# Altium schematic symbol library PMOD_RS485.SchLib: 43 symbols
Pins are listed as number, name and electrical type; pins without a type are passive.

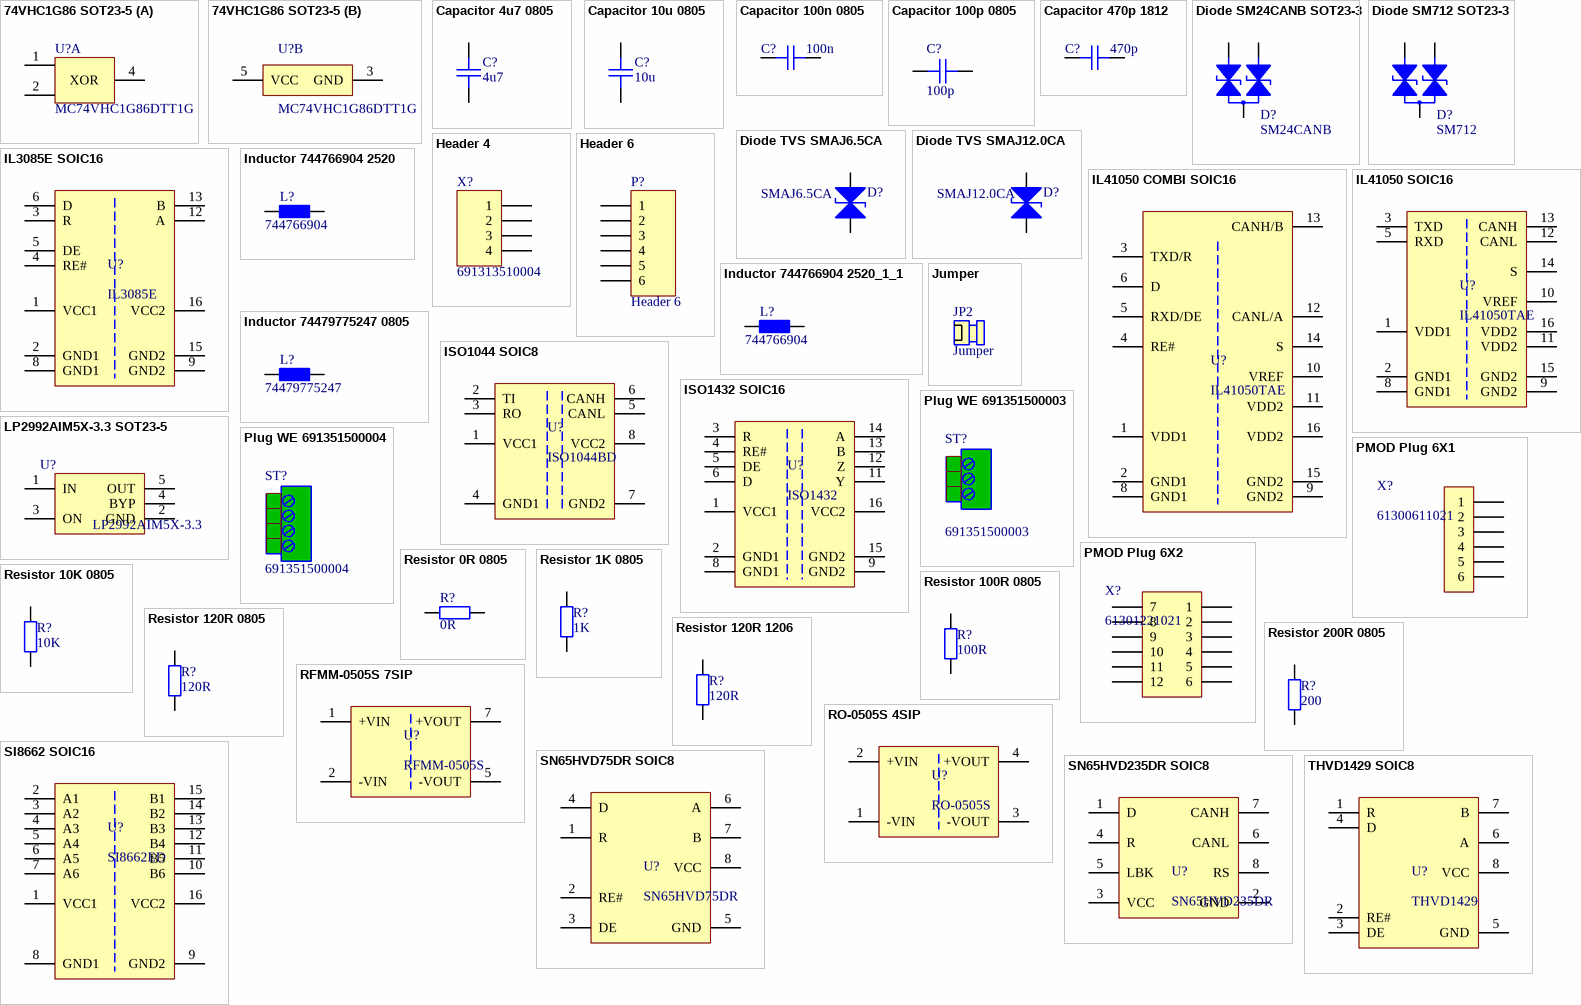
[diagram p0: symbols 74VHC1G86 SOT23-5 to THVD1429 SOIC8]

## 74VHC1G86 SOT23-5
designator U?, comment MC74VHC1G86DTT1G
IC GATE XOR 1CH 2-INP 5TSOP
footprint SOT23-5 (SOT23, 5-Leads, Body 2,90x2,80mm, Pitch 0,95mm, IPC Medium Density)
part A pins: 1 B, 2 A, 4 Y
part B pins: 3 GND (power), 5 VCC (power)
part A text: XOR

## Capacitor 4u7 0805
designator C?, comment 4u7
CAP CER 4.7UF 16V X5R 0805; Manufacturer PartNo: 885012107013; Manufacturer: Würth Elektronik; Supplier 1 (Info): Digi-Key; Supplier 1 PartNo (Info): 732-7623-1-ND
footprint 0402-C (Chip Capacitor, 2-Leads, Body 1,00x0,50mm, IPC Medium Density)
footprint 0603-C (Chip Capacitor, 2-Leads, Body 1,60x0,85mm, IPC Medium Density)
footprint 0805-C (Chip Capacitor, 2-Leads, Body 2,00x1,25mm, IPC Medium Density)
footprint 1206-C (Chip Capacitor, 2-Leads, Body 3,20x1,60mm, IPC Medium Density)
pins: 1, 2
2 alternate drawings of the same symbol

## Capacitor 10u 0805
designator C?, comment 10u
CAP CER 10UF 16V X5R 0805; Manufacturer PartNo: EMK212BBJ106KGHT; Manufacturer: Taiyo Yuden; Supplier 1 (Info): Digi-Key; Supplier 1 PartNo (Info): 587-3320-1-ND
footprint 0805-C (Chip Capacitor, 2-Leads, Body 2,00x1,25mm, IPC Medium Density)
pins: 1, 2
2 alternate drawings of the same symbol

## Capacitor 100n 0805
designator C?, comment 100n
CAP CER 0.1UF 50V X8R 0805; Manufacturer PartNo: GCM21BR91H104KA37L; Manufacturer: Murata Electronics; Supplier 1 (Info): Digi-Key; Supplier 1 PartNo (Info): 490-11165-1-ND
footprint 0805-C (Chip Capacitor, 2-Leads, Body 2,00x1,25mm, IPC Medium Density)
pins: 1, 2
2 alternate drawings of the same symbol

## Capacitor 100p 0805
designator C?, comment 100p
CAP CER 100PF 250V C0G/NP0 0805; Manufacturer PartNo: GRM21A5C2E101FW01D; Manufacturer: Murata Electronics; Supplier 1 (Info): Digi-Key; Supplier 1 PartNo (Info): 490-GRM21A5C2E101FW01DCT-ND
footprint 0805-C (Chip Capacitor, 2-Leads, Body 2,00x1,25mm, IPC Medium Density)
pins: 1, 2
2 alternate drawings of the same symbol

## Capacitor 470p 1812
designator C?, comment 470p
CAP CER 470PF 5KV X7R 1812; Manufacturer PartNo: HV1812Y471KXMATHV; Manufacturer: Vishay Vitramon; Supplier 1 (Info): Digi-Key; Supplier 1 PartNo (Info): 720-1555-1-ND
footprint 1812-C (Chip Capacitor, 2-Leads, Body 4,60x3,20mm, IPC Medium Density)
pins: 1, 2
2 alternate drawings of the same symbol

## Diode SM24CANB SOT23-3
designator D?, comment SM24CANB
TVS DIODE 24V 50V SOT23-3; Manufacturer PartNo: SM24CANB-02HTG; Manufacturer: Littelfuse Inc.; Supplier 1 (Info): Digi-Key; Supplier 1 PartNo (Info): F6707CT-ND
footprint SOT23-3 (SOT95P230X110-3N, JEDEC TO-236AB)
pins: 1, 2, 3

## Diode SM712 SOT23-3
designator D?, comment SM712
TVS DIODE 12V 21V SOT23; Manufacturer PartNo: SM712-TP; Manufacturer: Micro Commercial Co; Supplier 1 (Info): Digi-Key; Supplier 1 PartNo (Info): SM712-TPMSCT-ND
footprint SOT23-3 (SOT95P230X110-3N, JEDEC TO-236AB)
pins: 1, 2, 3

## Diode TVS SMAJ6.5CA
designator D?, comment SMAJ6.5CA
TVS DIODE 6.5V 11.2V DO214AC; Manufacturer PartNo: SMAJ6.5CA-TP; Manufacturer: Micro Commercial Co; Supplier 1 (Info): Digi-Key; Supplier 1 PartNo (Info): SMAJ6.5CA-TPMSCT-ND
footprint SMA-BIDIRECTIONAL (Molded Diode DO-214AC (SMA), 2-Leads, Body 4.25x2.67mm, IPC Medium Density)
pins: 1 A1, 2 A2

## Diode TVS SMAJ12.0CA
designator D?, comment SMAJ12.0CA
TVS DIODE 12V 19.9V DO214AC; Manufacturer PartNo: SMAJ12CA-TP; Manufacturer: Micro Commercial Co; Supplier 1 (Info): Digi-Key; Supplier 1 PartNo (Info): SMAJ12CA-TPMSCT-ND
footprint SMA-BIDIRECTIONAL (Molded Diode DO-214AC (SMA), 2-Leads, Body 4.25x2.67mm, IPC Medium Density)
pins: 1 A1, 2 A2

## Header 4
designator X?, comment 691313510004
TERM BLOCK HDR 4POS 90DEG 5.08MM; Manufacturer: Würth Elektronik; Manufacturer PartNo: 691313510004; Supplier 1 (Info): Digi-Key; Supplier 1 PartNo (Info): 732-2072-ND
footprint X_WE-691313510004_V01_IPCM (TERM BLOCK HDR 4POS 90DEG 5.08MM)
pins: 1, 2, 3, 4

## Header 6
designator P?
Header, 6-Pin
pins: 1, 2, 3, 4, 5, 6

## IL3085E SOIC16
designator U?, comment IL3085E
DGT ISO 2.5KV RS422/RS485 16SOIC; Manufacturer: NVE Corp/Isolation Products; Manufacturer PartNo: IL3085E; Supplier 1 (Info): Digi-Key; Supplier 1 PartNo (Info): 390-IL3085E-ND
footprint SOIC-16W (SOIC, 16-Leads, Body 10.30x7.49mm, Pitch 1.27mm, IPC Medium Density)
pins: 1 VCC1 (power), 2 GND1 (power), 3 R, 4 RE#, 5 DE, 6 D, 8 GND1 (power), 9 GND2 (power), 12 A, 13 B, 15 GND2 (power), 16 VCC2 (power)

## IL41050 COMBI SOIC16
designator U?, comment IL41050TAE
DGT ISOL 2500VRMS 2CH CAN 16SOIC; Manufacturer: NVE Corp/Isolation Products; Manufacturer PartNo: IL 41050TAE; Supplier 1 (Info): Digi-Key; Supplier 1 PartNo (Info): 390-IL41050TAE-ND
footprint SOIC-16W (SOIC, 16-Leads, Body 10.30x7.49mm, Pitch 1.27mm, IPC Medium Density)
pins: 1 VDD1 (power), 2 GND1 (power), 3 TXD/R, 4 RE#, 5 RXD/DE, 6 D, 8 GND1 (power), 9 GND2 (power), 10 VREF (power), 11 VDD2 (power), 12 CANL/A, 13 CANH/B, 14 S, 15 GND2 (power), 16 VDD2 (power)

## IL41050 SOIC16
designator U?, comment IL41050TAE
DGT ISOL 2500VRMS 2CH CAN 16SOIC; Manufacturer: NVE Corp/Isolation Products; Manufacturer PartNo: IL 41050TAE; Supplier 1 (Info): Digi-Key; Supplier 1 PartNo (Info): 390-IL41050TAE-ND
footprint SOIC-16W (SOIC, 16-Leads, Body 10.30x7.49mm, Pitch 1.27mm, IPC Medium Density)
pins: 1 VDD1 (power), 2 GND1 (power), 3 TXD, 5 RXD, 8 GND1 (power), 9 GND2 (power), 10 VREF (power), 11 VDD2 (power), 12 CANL, 13 CANH, 14 S, 15 GND2 (power), 16 VDD2 (power)

## Inductor 744766904 2520
designator L?, comment 744766904
FIXED IND 4.7UH 1.2A 235 MOHM; Manufacturer: Wurth Electronics Inc.; Manufacturer PartNo: 744766904; Supplier 1 PartNo (Info): 732-7300-1-ND; Supplier 1 (Info): Digi-Key
footprint WE-GFH_2520 (High Frequency SMT Inductor 4.2X3.2)
pins: 1, 2

## Inductor 744766904 2520_1_1
designator L?, comment 744766904
FIXED IND 4.7UH 1.2A 235 MOHM; Manufacturer: Wurth Electronics Inc.; Manufacturer PartNo: 744766904; Supplier 1 PartNo (Info): 732-7300-1-ND; Supplier 1 (Info): Digi-Key
footprint WE-GFH_2520 (High Frequency SMT Inductor 4.2X3.2)
pins: 1, 2

## Inductor 74479775247 0805
designator L?, comment 74479775247
FIXED IND 4.7UH 850MA 312.5 MOHM; Manufacturer: Wurth Electronics Inc.; Manufacturer PartNo: 74479775247; Supplier 1 PartNo (Info): 732-74479775247TR-ND; Supplier 1 (Info): Digi-Key
footprint 0805-L (Chip Inductor, 2-Leads, Body 2,00x1,20mm, IPC Medium Density)
pins: 1, 2

## ISO1044 SOIC8
designator U?, comment ISO1044BD
IC TXRX/ISO FULL 1/1 8SOIC; Manufacturer: Texas Instruments; Manufacturer PartNo: ISO1044BD; Supplier 1 (Info): Digi-Key; Supplier 1 PartNo (Info): 296-ISO1044BD-ND
footprint SOIC-8 (SOIC, 8-Leads, Body 4,90x3,90mm, Pitch 1,27mm, IPC Medium Density)
pins: 1 VCC1 (power), 2 TI, 3 RO, 4 GND1 (power), 5 CANL, 6 CANH, 7 GND2 (power), 8 VCC2 (power)

## ISO1432 SOIC16
designator U?, comment ISO1432
IC TXRX/ISO FULL 1/1 16SOIC; Manufacturer: Texas Instruments; Manufacturer PartNo: ISO1432BDWR; Supplier 1 (Info): Digi-Key; Supplier 1 PartNo (Info): 296-ISO1432BDWRDKR-ND
footprint SOIC-16 (SOIC, 16-Leads, Body 9,90x3,90mm, Pitch 1,27mm, IPC Medium Density)
pins: 1 VCC1 (power), 2 GND1 (power), 3 R, 4 RE#, 5 DE, 6 D, 8 GND1 (power), 9 GND2 (power), 11 Y, 12 Z, 13 B, 14 A, 15 GND2 (power), 16 VCC2 (power)

## Jumper
designator JP2  (graphical)
CONN JUMPER SHORTING .100" GOLD; Hersteller: Sullins Connector Solutions; Hersteller-Teilenummer: QPC02SXGN-RC; Lieferant: Digi-Key; Lieferanten-Teilenummer: S9337-ND

## LP2992AIM5X-3.3 SOT23-5
designator U?, comment LP2992AIM5X-3.3
IC REG LINEAR 3.3V 250MA SOT23-5; Manufacturer: Texas Instruments; Manufacturer PartNo: LP2992AIM5X-3.3/NOPB; Supplier 1 (Info): Digi-Key; Supplier 1 PartNo (Info): 296-43238-1-ND
footprint SOT23-5 (SOT23, 5-Leads, Body 2,90x2,80mm, Pitch 0,95mm, IPC Medium Density)
pins: 1 IN (power), 2 GND (power), 3 ON (power), 4 BYP (power), 5 OUT (power)

## Plug WE 691351500003
designator ST?, comment 691351500003  (mechanical)
TERM BLOCK PLUG 3POS 5.08MM; Manufacturer: Würth Elektronik; Manufacturer PartNo: 691351500003; Supplier 1 (Info): Digi-Key; Supplier 1 PartNo (Info): 732-2041-ND

## Plug WE 691351500004
designator ST?, comment 691351500004  (mechanical)
TERM BLOCK PLUG 4POS 5.08MM; Manufacturer: Würth Elektronik; Manufacturer PartNo: 691351500004; Supplier 1 (Info): Digi-Key; Supplier 1 PartNo (Info): 732-2042-ND

## PMOD Plug 6X1
designator X?, comment 61300611021
CONN HEADER R/A 6POS 2.54MM; Manufacturer: Würth Elektronik; Manufacturer PartNo: 61300611021; Supplier 1 (Info): Digi-Key; Supplier 1 PartNo (Info): 732-5339-ND
footprint WE-61302021121 (CONN HEADER VERT 20POS 2.54MM)
pins: 1, 2, 3, 4, 5, 6

## PMOD Plug 6X2
designator X?, comment 61301221021
CONN HEADER R/A 12POS 2.54MM; Manufacturer: Würth Elektronik; Manufacturer PartNo: 61301221021; Supplier 1 (Info): Digi-Key; Supplier 1 PartNo (Info): 732-5354-ND
footprint WE-61302021121 (CONN HEADER VERT 20POS 2.54MM)
pins: 1, 2, 3, 4, 5, 6, 7, 8, 9, 10, 11, 12

## Resistor 0R 0805
designator R?, comment 0R
RES SMD 0 OHM JUMPER 1/8W 0805; Manufacturer: Panasonic Electronic Components; Manufacturer PartNo: ERJ-6GEY0R00V; Supplier 1 (Info): Digi-Key; Supplier 1 PartNo (Info): P0.0ACT-ND
footprint 0805-R (Chip Resistor, 2-Leads, Body 2,00x1,25mm, IPC Medium Density)
pins: 1, 2

## Resistor 1K 0805
designator R?, comment 1K
RES SMD 1K OHM 1% 1/8W 0805; Manufacturer: Yageo; Manufacturer PartNo: RC0805FR-071KL; Supplier 1 (Info): Digi-Key; Supplier 1 PartNo (Info): 311-1.00KCRCT-ND
footprint 0805-R (Chip Resistor, 2-Leads, Body 2,00x1,25mm, IPC Medium Density)
pins: 1, 2

## Resistor 10K 0805
designator R?, comment 10K
RES SMD 10K OHM 1% 1/8W 0805; Manufacturer: Yageo; Manufacturer PartNo: RC0805FR-0710KL; Supplier 1 (Info): Digi-Key; Supplier 1 PartNo (Info): 311-10.0KCRCT-ND
footprint 0805-R (Chip Resistor, 2-Leads, Body 2,00x1,25mm, IPC Medium Density)
pins: 1, 2

## Resistor 100R 0805
designator R?, comment 100R
RES SMD 100 OHM 1% 1/8W 0805; Manufacturer: Yageo; Manufacturer PartNo: RC0805FR-07100RL; Supplier 1 (Info): Digi-Key; Supplier 1 PartNo (Info): 311-100CRCT-ND
footprint 0805-R (Chip Resistor, 2-Leads, Body 2,00x1,25mm, IPC Medium Density)
pins: 1, 2

## Resistor 120R 0805
designator R?, comment 120R
RES SMD 120 OHM 1% 1/8W 0805; Manufacturer: Yageo; Manufacturer PartNo: RC0805FR-07120RL; Supplier 1 (Info): Digi-Key; Supplier 1 PartNo (Info): 311-120CRCT-ND
footprint 0805-R (Chip Resistor, 2-Leads, Body 2,00x1,25mm, IPC Medium Density)
pins: 1, 2

## Resistor 120R 1206
designator R?, comment 120R
RES SMD 120 OHM 1% 1/4W 1206; Manufacturer: Yageo; Manufacturer PartNo: RC1206FR-07120RL; Supplier 1 (Info): Digi-Key; Supplier 1 PartNo (Info): 311-120FRCT-ND
footprint 1206-R (Chip Resistor, 2-Leads, Body 3,13x1,55mm, IPC Medium Density)
pins: 1, 2

## Resistor 200R 0805
designator R?, comment 200
RES SMD 200 OHM 1% 1/8W 0805; Manufacturer: Yageo; Manufacturer PartNo: RC0805FR-07200RL; Supplier 1 (Info): Digi-Key; Supplier 1 PartNo (Info): 311-200CRCT-ND
footprint R_RESC2112X05N_V01_IPCM
pins: 1, 2

## RFMM-0505S 7SIP
designator U?, comment RFMM-0505S
DC DC CONVERTER 5V 1W; Manufacturer: Recom Power; Manufacturer PartNo: RFMM-0505S; Supplier 1 (Info): Digi-Key; Supplier 1 PartNo (Info): 945-3160-ND
footprint RFMM-0505S (DC/DC)
pins: 1 +VIN (power), 2 -VIN (power), 5 -VOUT (power), 7 +VOUT (power)

## RO-0505S 4SIP
designator U?, comment RO-0505S
DC DC CONVERTER 5V 1W; Manufacturer: Recom Power; Manufacturer PartNo: RO-0505S; Supplier 1 (Info): Digi-Key; Supplier 1 PartNo (Info): 945-1220-ND
footprint RO-0505S (DC/DC)
pins: 1 -VIN (power), 2 +VIN (power), 3 -VOUT (power), 4 +VOUT (power)

## SI8662 SOIC16
designator U?, comment SI8662ED
DGTL ISO 5000VRMS 6CH GP 16SOIC; Manufacturer: Silicon Labs; Manufacturer PartNo: SI8662ED-B-ISR; Supplier 1 (Info): Digi-Key; Supplier 1 PartNo (Info): 336-4948-1-ND
footprint SOIC-16 (SOIC, 16-Leads, Body 9,90x3,90mm, Pitch 1,27mm, IPC Medium Density)
pins: 1 VCC1 (power), 2 A1, 3 A2, 4 A3, 5 A4, 6 A5, 7 A6, 8 GND1 (power), 9 GND2 (power), 10 B6, 11 B5, 12 B4, 13 B3, 14 B2, 15 B1, 16 VCC2 (power)

## SN65HVD75DR SOIC8
designator U?, comment SN65HVD75DR
IC TRANSCEIVER HALF 1/1 8SOIC; Manufacturer: Texas Instruments; Manufacturer PartNo: SN65HVD75DR; Supplier 1 (Info): Digi-Key; Supplier 1 PartNo (Info): 296-38570-1-ND
footprint SOIC-8 (SOIC, 8-Leads, Body 4,90x3,90mm, Pitch 1,27mm, IPC Medium Density)
pins: 1 R, 2 RE#, 3 DE, 4 D, 5 GND (power), 6 A, 7 B, 8 VCC (power)

## SN65HVD235DR SOIC8
designator U?, comment SN65HVD235DR
IC TRANSCEIVER HALF 1/1 8SOIC; Manufacturer: Texas Instruments; Manufacturer PartNo: SN65HVD235DR; Supplier 1 (Info): Digi-Key; Supplier 1 PartNo (Info): 296-44789-1-ND
footprint SOIC-8 (SOIC, 8-Leads, Body 4,90x3,90mm, Pitch 1,27mm, IPC Medium Density)
pins: 1 D, 2 GND (power), 3 VCC (power), 4 R, 5 LBK, 6 CANL, 7 CANH, 8 RS

## THVD1429 SOIC8
designator U?, comment THVD1429
IC TRANSCEIVER HALF 1/1 8SOIC; Manufacturer: Texas Instruments; Manufacturer PartNo: THVD1429DR; Supplier 1 (Info): Digi-Key; Supplier 1 PartNo (Info): 296-THVD1429DRCT-ND
footprint SOIC-8 (SOIC, 8-Leads, Body 4,90x3,90mm, Pitch 1,27mm, IPC Medium Density)
pins: 1 R, 2 RE#, 3 DE, 4 D, 5 GND (power), 6 A, 7 B, 8 VCC (power)

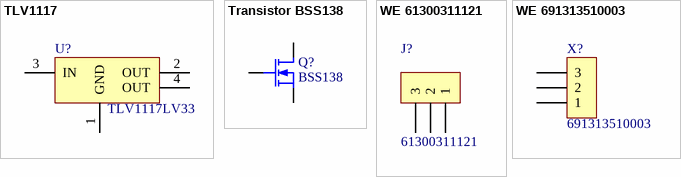
[diagram p1: symbols TLV1117 to WE 691313510003]

## TLV1117
designator U?, comment TLV1117LV33
IC REG LINEAR 3.3V 1A SOT223-4; Manufacturer: Texas Instruments; Manufacturer PartNo: TLV1117LV33DCYR; Supplier 1 (Info): Digi-Key; Supplier 1 PartNo (Info): 296-28778-1-ND
footprint SOT223-4 (SOT223, 4-Leads, Body 6,50x7,00mm (avg), Pitch 2,30mm, IPC Medium Density)
pins: 1 GND (power), 2 OUT (power), 3 IN (power), 4 OUT (power)

## Transistor BSS138
designator Q?, comment BSS138
MOSFET N-CH 50V 200MA SOT-23; Manufacturer: ON Semiconductor; Manufacturer PartNo: BSS138LT3G; Supplier 1 PartNo (Info): BSS138LT3GOSCT-ND; Supplier 1 (Info): Digi-Key
footprint SOT23-3 (SOT95P230X110-3N, JEDEC TO-236AB)
pins: 1 Gate, 2 Source, 3 Drain

## WE 61300311121
designator J?, comment 61300311121
CONN HEADER VERT 3POS 2.54MM; Manufacturer: Würth Elektronik; Manufacturer PartNo: 61300311121; Supplier 1 (Info): Digi-Key; Supplier 1 PartNo (Info): 732-5316-ND
footprint WE-61300311121 (CONN HEADER VERT 3POS 2.54MM)
pins: 1, 2, 3

## WE 691313510003
designator X?, comment 691313510003
TERM BLOCK HDR 3POS 90DEG 5.08MM; Manufacturer: Würth Elektronik; Manufacturer PartNo: 691313510003; Supplier 1 (Info): Digi-Key; Supplier 1 PartNo (Info): 732-2071-ND
footprint WE-691313510003 (TERM BLOCK HDR 4POS 90DEG 5.08MM)
pins: 1, 2, 3